# Altium footprint library MAX30102.PcbLib: 1 footprints
Each footprint in its own frame and in the unit in brackets; x right, y up, seen from the top. Pads: shape width x height; smd on the part's side, far side on the other; paste and mask are expansions set on the pad; w line width, h text height; cw(c..) or ccw(c..) is an arc to the next point about the centre after c.
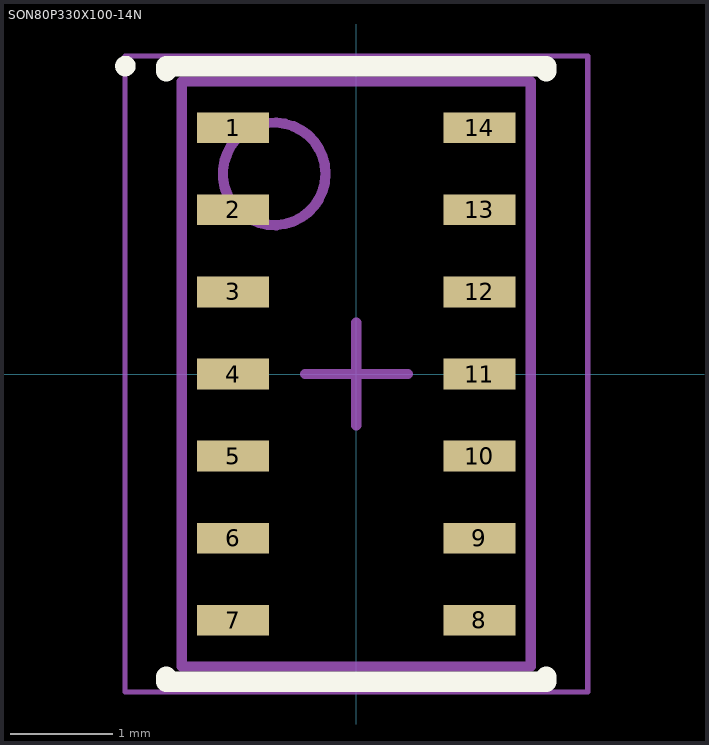
[diagram p0: the footprint, top view; thin cyan lines are the x and y axes]

## SON80P330X100-14N [mm] "SON, 14-Leads, Body 5.60x3.30mm, Pitch 0.80mm, IPC Medium Density"
height 1
pads (14):
  rect 0.7x0.3 smd: 1(-1.2,2.4) 2(-1.2,1.6) 3(-1.2,0.8) 4(-1.2,0) 5(-1.2,-0.8) 6(-1.2,-1.6) 7(-1.2,-2.4) 8(1.2,-2.4) 9(1.2,-1.6) 10(1.2,-0.8) 11(1.2,0) 12(1.2,0.8) 13(1.2,1.6) 14(1.2,2.4)
Top Overlay:
  circle w0.1: c-2.25,3 r0.05
  lines w0.2: -1.85,-2.95 -1.85,-3 1.85,-3 1.85,-2.95 ; -1.85,2.95 -1.85,3 1.85,3 1.85,2.95
Mechanical 13:
  circle w0.1: c-0.8,1.95 r0.5
  lines w0.1: -1.7,-2.85 1.7,-2.85 1.7,2.85 -1.7,2.85 -1.7,-2.85
Mechanical 15:
  lines w0.05: -2.255,-3.1 2.255,-3.1 2.255,3.1 -2.255,3.1 -2.255,-3.1
  lines w0.1: -0.5,0 0.5,0 ; 0,-0.5 0,0.5
3D body "SON80P330X100-14N.step": height 1, standoff 0.08, extent -1.7,-2.85 1.7,2.85